# Altium schematic symbol library LM5050.SCHLIB: 1 symbol
Pins are listed as number, name and electrical type; pins without a type are passive.

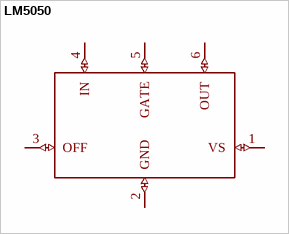
[diagram p0: symbol LM5050]

## LM5050
designator ?
GateName_1: G$1; SymbolName_1: LM5050; LibraryName: LM5050; DeviceSetName: LM5050; Package: LM5050
footprint LM5050
pins: 1 VS (io), 2 GND (io), 3 OFF (io), 4 IN (io), 5 GATE (io), 6 OUT (io)